# Altium footprint library LPEDT_revA1_bikeit.PcbLib: 45 footprints (part 3 of 3)
Each footprint in its own frame and in the unit in brackets; x right, y up, seen from the top. Pads: shape width x height; smd on the part's side, far side on the other; paste and mask are expansions set on the pad; w line width, h text height; cw(c..) or ccw(c..) is an arc to the next point about the centre after c.
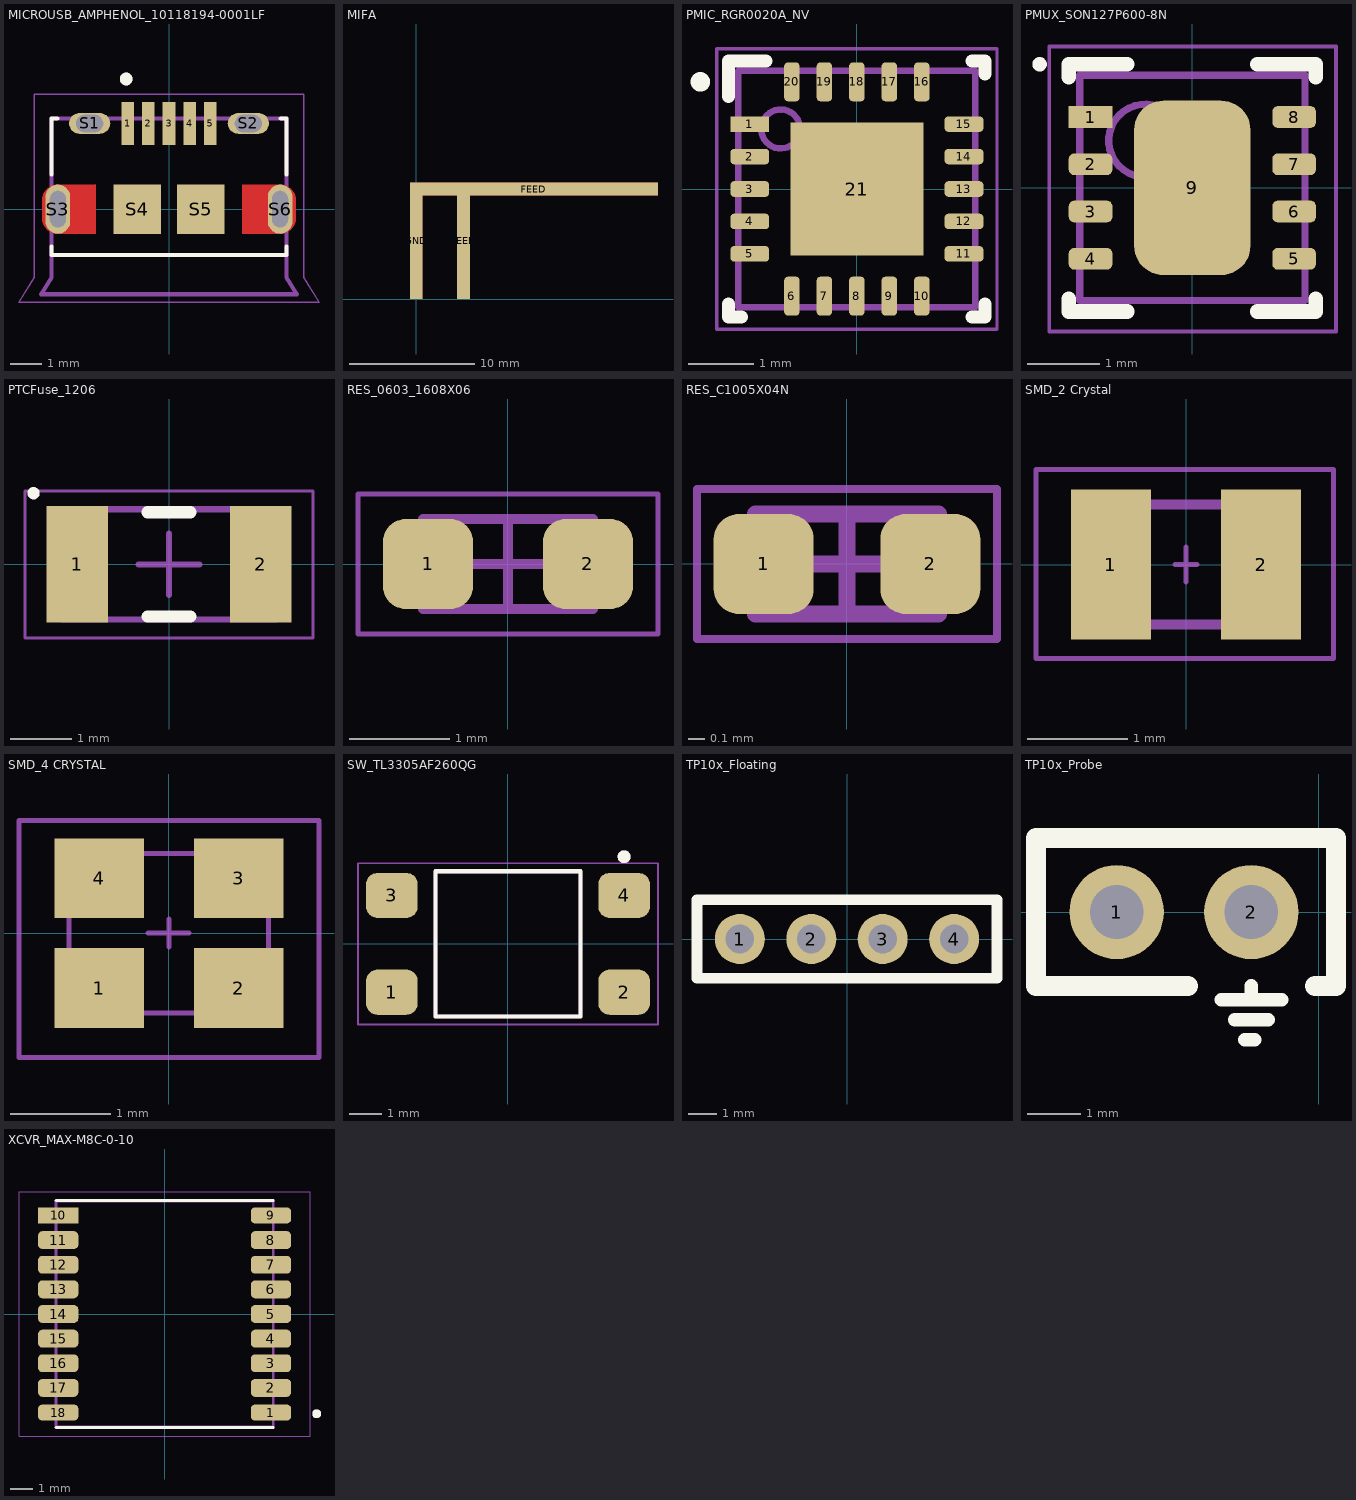
[diagram p2: the footprints below, top view; thin cyan lines are the x and y axes]

## MICROUSB_AMPHENOL_10118194-0001LF [mm]
pads (11):
  rect 0.4x1.35 smd: 1(-1.3,2.7) 2(-0.65,2.7) 3(0,2.7) 4(0.65,2.7) 5(1.3,2.7)
  oval 1.3x0.65 hole 0.55 slot 0.85 at 0 deg: S1(-2.5,2.7) S2(2.5,2.7)
  oval 0.775x1.55 hole 0.5 slot 1.15 at 90 deg: S3(-3.5,0) S6(3.5,0)
  rect 1.5x1.55 smd: S4(-1,0) S5(1,0)
Top Layer:
  region: 192 vertices and 0 holes, not listed, extent -4,-0.775 -2.3,0.78
  region: 192 vertices and 0 holes, not listed, extent 2.3,-0.78 4,0.775
Top Overlay:
  circle w0.2: c-1.35,4.1 r0.1
  lines w0.127: -3.7,-1.18 -3.7,-1.45 3.7,-1.45 3.7,-1.18 ; -3.7,1.095 -3.7,2.85 -3.52,2.85 ; 3.52,2.85 3.7,2.85 3.7,1.095
Top Paste:
  drawing of 6 lines, arcs and shapes, not listed
Top Solder:
  region: -2.2,-0.875 -3.6,-0.875 -3.626,-0.874 -3.652,-0.872 -3.678,-0.869 -3.704,-0.864 -3.729,-0.858 -3.755,-0.851 -3.779,-0.842 -3.803,-0.832 -3.827,-0.821 -3.85,-0.808 -3.872,-0.794 -3.894,-0.78 -3.915,-0.764 -3.935,-0.747 -3.954,-0.729 -3.972,-0.71 -3.989,-0.69 -4.005,-0.669 -4.019,-0.647 -4.033,-0.625 -4.046,-0.602 -4.057,-0.578 -4.067,-0.554 -4.076,-0.53 -4.083,-0.504 -4.089,-0.479 -4.094,-0.453 -4.097,-0.427 -4.099,-0.401 -4.1,-0.375 -4.1,0.375 -4.099,0.401 -4.097,0.427 -4.094,0.453 -4.089,0.479 -4.083,0.504 -4.076,0.53 -4.067,0.554 -4.057,0.578 -4.046,0.602 -4.033,0.625 -4.019,0.647 -4.005,0.669 -3.989,0.69 -3.972,0.71 -3.954,0.729 -3.935,0.747 -3.915,0.764 -3.894,0.78 -3.872,0.794 -3.85,0.808 -3.827,0.821 -3.803,0.832 -3.779,0.842 -3.755,0.851 -3.729,0.858 -3.704,0.864 -3.678,0.869 -3.652,0.872 -3.626,0.874 -3.6,0.875 -2.2,0.875
  region: 3.626,0.874 3.652,0.872 3.678,0.869 3.704,0.864 3.729,0.858 3.755,0.851 3.779,0.842 3.803,0.832 3.827,0.821 3.85,0.808 3.872,0.794 3.894,0.78 3.915,0.764 3.935,0.747 3.954,0.729 3.972,0.71 3.989,0.69 4.005,0.669 4.019,0.647 4.033,0.625 4.046,0.602 4.057,0.578 4.067,0.554 4.076,0.53 4.083,0.504 4.089,0.479 4.094,0.453 4.097,0.427 4.099,0.401 4.1,0.375 4.1,-0.375 4.099,-0.401 4.097,-0.427 4.094,-0.453 4.089,-0.479 4.083,-0.504 4.076,-0.53 4.067,-0.554 4.057,-0.578 4.046,-0.602 4.033,-0.625 4.019,-0.647 4.005,-0.669 3.989,-0.69 3.972,-0.71 3.954,-0.729 3.935,-0.747 3.915,-0.764 3.894,-0.78 3.872,-0.794 3.85,-0.808 3.827,-0.821 3.803,-0.832 3.779,-0.842 3.755,-0.851 3.729,-0.858 3.704,-0.864 3.678,-0.869 3.652,-0.872 3.626,-0.874 3.6,-0.875 2.2,-0.875 2.2,0.875 3.6,0.875
Mechanical 13:
  circle w0.2: c-1.35,4.1 r0.1
  lines w0.127: -3.7,-1.45 3.7,-1.45 ; -3.7,-1.45 -3.7,2.85 3.7,2.85 3.7,-1.45 ; -3.7,-1.45 -3.7,-2.15 -4.025,-2.68 4.025,-2.68 3.7,-2.15 3.7,-1.45
  text "PCB END" at -1.95,-2.1 h0.5
  text ".Designator" at -3.187,1.219 h0.5
Mechanical 15:
  lines w0.05: -4.725,-2.93 4.725,-2.93 4.25,-2.15 4.25,3.625 -4.25,3.625 -4.25,-2.15 -4.725,-2.93
3D body "10118194c.stp": height 2.75, standoff -0.53, extent -4.05,-2.692 4,2.888

## MIFA [mil] "Footprint for Miniaturized Inverted F Antenna"
pads (3):
  rect 40x367 smd paste-118.11 mask+0: FEED(149,183.5) GND(0,183.5)
  rect 782.01x40 smd paste-118.11 mask+0: FEED(370.98,347.01)
Top Layer:
  region: -20,367.01 -20,0 20,0 20,367.01
  region: 129.02,367.01 129.02,0 169.02,0 169.02,367.01
  rectangle: -20,327 762,367

## PMIC_RGR0020A_NV [mm]
pads (41):
  rect 0.6x0.24 smd paste-0.102 mask+0.051: 1(-1.65,1)
  rrect50% 0.6x0.24 smd paste-0.102 mask+0.051: 2(-1.65,0.5) 3(-1.65,0) 4(-1.65,-0.5) 5(-1.65,-1) 11(1.65,-1) 12(1.65,-0.5) 13(1.65,0) 14(1.65,0.5) 15(1.65,1)
  rrect50% 0.24x0.6 smd paste-0.102 mask+0.051: 6(-1,-1.65) 7(-0.5,-1.65) 8(0,-1.65) 9(0.5,-1.65) 10(1,-1.65) 16(1,1.65) 17(0.5,1.65) 18(0,1.65) 19(-0.5,1.65) 20(-1,1.65)
  rect 2.05x2.05 smd paste-1.025 mask+0.051: 21(0,0)
  rrect50% 0.6x0.24 on Top Paste paste-0.102 mask+0.051: ""(-1.65,-1.001) ""(-1.65,-0.501) ""(-1.65,-0.001) ""(-1.65,0.499) ""(1.65,-1.001) ""(1.65,-0.501) ""(1.65,-0.001) ""(1.65,0.499) ""(1.65,0.999)
  rect 0.6x0.24 on Top Paste paste-0.102 mask+0.051: ""(-1.65,0.999)
  rrect50% 0.24x0.6 on Top Paste paste-0.102 mask+0.051: ""(-1,-1.651) ""(-1,1.649) ""(-0.5,-1.651) ""(-0.5,1.649) ""(0,-1.651) ""(0,1.649) ""(0.5,-1.651) ""(0.5,1.649) ""(1,-1.651) ""(1,1.649)
Top Overlay:
  circle w0.2: c-2.413,1.651 r0.05
  lines w0.2: -1.975,-1.775 -1.975,-1.975 -1.775,-1.975 ; -1.975,1.425 -1.975,1.975 -1.4,1.975 ; 1.775,-1.975 1.975,-1.975 1.975,-1.775 ; 1.775,1.975 1.975,1.975 1.975,1.775
Top Paste:
  region: 0.1,1.017 0.1,0.1 1.017,0.1 1.017,1.017
  region: -0.1,0.1 -0.1,1.017 -1.017,1.017 -1.017,0.1
  region: -0.1,-1.017 -0.1,-0.1 -1.017,-0.1 -1.017,-1.017
  region: 0.1,-0.1 0.1,-1.017 1.017,-1.017 1.017,-0.1
Mechanical 13:
  circle w0.1: c-1.175,0.925 r0.3
  lines w0.1: -1.825,-1.825 -1.825,1.825 1.825,1.825 1.825,-1.825 -1.825,-1.825
  text ".Designator" at -1.524,-1.397 h0.5
Mechanical 15:
  lines w0.05: -2.159,-2.159 2.159,-2.159 2.159,2.159 -2.159,2.159 -2.159,-2.159
3D body "RGR0020A.stp": height 1, standoff 0, extent -1.75,-1.75 1.75,1.75

## PMUX_SON127P600-8N [mm]
height 1
pads (9):
  rect 0.6x0.3 smd: 1(-1.4,0.975)
  rrect50% 0.6x0.3 smd: 2(-1.4,0.325) 3(-1.4,-0.325) 4(-1.4,-0.975) 5(1.4,-0.975) 6(1.4,-0.325) 7(1.4,0.325) 8(1.4,0.975)
  rrect50% 1.6x2.4 smd: 9(0,0)
Top Overlay:
  circle w0.1: c-2.1,1.7 r0.05
  lines w0.2: -1.7,-1.525 -1.7,-1.7 -0.895,-1.7 ; -1.7,1.525 -1.7,1.7 -0.895,1.7 ; 0.895,-1.7 1.7,-1.7 1.7,-1.525 ; 0.895,1.7 1.7,1.7 1.7,1.525
Mechanical 13:
  circle w0.1: c-0.65,0.65 r0.5
  lines w0.1: -1.55,-1.55 1.55,-1.55 1.55,1.55 -1.55,1.55 -1.55,-1.55
  text ".Designator" at -1.396,-1.207 h0.5
Mechanical 15:
  lines w0.05: -1.969,-1.976 1.976,-1.976 1.976,1.946 -1.969,1.946 -1.969,-1.976
  lines w0.1: -0.5,0 0.5,0 ; 0,-0.5 0,0.5
3D body "SON127P600-8N.step": height 1, standoff 0, extent -1.6,-1.55 1.6,1.55

## PTCFuse_1206 [mm]
height 0.85
pads (2):
  rect 1x1.9 smd: 1(-1.5,0) 2(1.5,0)
Top Overlay:
  circle w0.1: c-2.212,1.162 r0.05
  lines w0.2: -0.35,-0.85 0.35,-0.85 ; -0.35,0.85 0.35,0.85
Mechanical 13:
  lines w0.1: -1.75,-0.9 1.75,-0.9 1.75,0.9 -1.75,0.9 -1.75,-0.9
  text ".Designator" at -0.799,-0.677 h0.5
Mechanical 15:
  lines w0.05: -2.35,-1.2 2.35,-1.2 2.35,1.2 -2.35,1.2 -2.35,-1.2
  lines w0.1: -0.5,0 0.5,0 ; 0,-0.5 0,0.5
3D body "PTCFuse_1206.step": height 0.85, standoff 0, extent -1.75,-0.9 1.75,0.9

## RES_0603_1608X06 [mm] "Chip Resistor, 2-Leads, Body 1.60x0.80mm, IPC Medium Density"
height 0.55
pads (2):
  rrect50% 0.9x0.9 smd: 1(-0.8,0) 2(0.8,0)
Mechanical 13:
  lines w0.1: -0.85,-0.45 -0.85,0.45 0.85,0.45 0.85,-0.45 -0.85,-0.45
  text ".Designator" at -0.635,-0.254 h0.4
Mechanical 15:
  lines w0.05: -1.5,-0.7 -1.5,0.7 1.5,0.7 1.5,-0.7 -1.5,-0.7
  lines w0.1: -0.45,0 0.45,0 ; 0,-0.45 0,0.45
3D body "0603_1608X05N.step": height 0.45, standoff 0, extent -0.775,-0.425 0.775,0.425

## RES_C1005X04N [mm] "Chip Resistor, 2-Leads, Body 1.00x0.50mm, IPC Medium Density"
height 0.4
pads (2):
  rrect50% 0.6x0.6 smd: 1(-0.5,0) 2(0.5,0)
Mechanical 13:
  lines w0.1: -0.55,-0.3 -0.55,0.3 0.55,0.3 0.55,-0.3 -0.55,-0.3
  text ".Designator" at -0.762,-0.305 h0.4
Mechanical 15:
  lines w0.05: -0.9,-0.45 -0.9,0.45 0.9,0.45 0.9,-0.45 -0.9,-0.45
  lines w0.1: -0.3,0 0.3,0 ; 0,-0.3 0,0.3
3D body "RESC1005X04N.step": height 0.4, standoff 0, extent -0.55,-0.3 0.55,0.3

## SMD_2 Crystal [mm]
pads (2):
  rect 0.8x1.5 smd: 1(-0.751,0) 2(0.751,0)
Mechanical 3:
  lines w0.05: 0,-0.175 0,0.175 ; 0,0 -0.112,0 0.112,0 ; -1.5,-0.939 -1.5,0.95 1.475,0.95 1.475,-0.939 -1.5,-0.939
Mechanical 13:
  lines w0.1: -1,-0.6 1,-0.6 1,0.6 -1,0.6 -1,-0.6
  text ".Designator" at -0.788,-0.483 h0.2
3D body "CM8V-T1A.stp": height 0.6, standoff 0, extent -1,-0.6 1,0.6

## SMD_4 CRYSTAL [mm]
pads (4):
  rect 0.9x0.8 smd: 1(-0.7,-0.55) 2(0.7,-0.55) 3(0.7,0.55) 4(-0.7,0.55)
Mechanical 3:
  lines w0.05: -0.21,0 0.203,0 0,0 ; 0,-0.141 0,0.14 ; 1.504,-1.244 -1.504,-1.244 -1.504,1.128 1.505,1.128 1.505,-1.244
Mechanical 13:
  lines w0.05: -1,-0.8 -1,0.8 1,0.8 1,-0.8 -1,-0.8
  text ".Designator" at -0.95,-0.684 h0.2
3D body "Crys_Kyocera_CX2016DB48000C0WPLA2_eec.STEP": height 0.45, standoff 0, extent -1,-0.8 1,0.8

## SW_TL3305AF260QG [mm]
pads (4):
  rrect50% 1.6x1.4 smd: 1(-3.6,-1.5) 2(3.6,-1.5) 3(-3.6,1.5) 4(3.6,1.5)
Top Overlay:
  circle w0.2: c3.6,2.7 r0.1
  lines w0.127: -2.25,-2.25 -2.25,2.25 2.25,2.25 2.25,-2.25 -2.25,-2.25
Mechanical 13:
  circle w0.2: c3.6,2.7 r0.1
  lines w0.127: -2.25,-2.25 -2.25,2.25 2.25,2.25 2.25,-2.25 -2.25,-2.25
  text ".Designator" at -1.955,-1.712 h0.4
Mechanical 15:
  lines w0.05: -4.65,-2.5 -4.65,2.5 4.65,2.5 4.65,-2.5 -4.65,-2.5
3D body "TL3305AFxxxxG.stp": height 3.7, standoff -0.1, extent -3.75,-2.25 3.75,2.25

## TP10x_Floating [mil] "Small Probs footprint"
pads (4):
  round 70 hole 40: 1(-150,0) 2(-50,0) 3(50,0) 4(150,0)
Top Overlay:
  lines w15: -210,-55 -210,55 210,55 210,-55 195,-55 -210,-55

## TP10x_Probe [mil] "Small Probs footprint"
pads (2):
  round 70 hole 40: 1(-150,0) 2(-50,0)
Top Overlay:
  lines w10: -72.5,-65 -27.5,-65 ; -62.5,-80 -37.5,-80 ; -54.77,-95 -47.5,-95 ; -50,-65 -50,-54.73
  lines w15: -97.08,-55 -210,-55 -210,55 12.93,55 12.93,-54.94 -2.64,-54.94

## XCVR_MAX-M8C-0-10 [mm]
pads (36):
  rrect50% 1.8x0.7 smd paste-2 mask+0: 1(4.75,-4.4) 9(4.75,4.4) 18(-4.75,-4.4)
  rrect50% 1.8x0.8 smd paste-2 mask+0: 2(4.75,-3.3) 3(4.75,-2.2) 4(4.75,-1.1) 5(4.75,0) 6(4.75,1.1) 7(4.75,2.2) 8(4.75,3.3) 11(-4.75,3.3) 12(-4.75,2.2) 13(-4.75,1.1) 14(-4.75,0) 15(-4.75,-1.1) 16(-4.75,-2.2) 17(-4.75,-3.3)
  rect 1.8x0.7 smd paste-2 mask+0: 10(-4.75,4.4)
  rrect50% 1.8x0.7 on Top Paste paste-2 mask+0: ""(-4.749,-4.399) ""(4.751,-4.399) ""(4.751,4.401)
  rrect50% 1.8x0.8 on Top Paste paste-2 mask+0: ""(-4.749,-3.299) ""(-4.749,-2.199) ""(-4.749,-1.099) ""(-4.749,0.001) ""(-4.749,1.101) ""(-4.749,2.201) ""(-4.749,3.301) ""(4.751,-3.299) ""(4.751,-2.199) ""(4.751,-1.099) ""(4.751,0.001) ""(4.751,1.101) ""(4.751,2.201) ""(4.751,3.301)
  rect 1.8x0.7 on Top Paste paste-2 mask+0: ""(-4.749,4.401)
Top Overlay:
  circle w0.2: c6.795,-4.454 r0.1
  lines w0.127: -4.85,-5.063 4.85,-5.063 ; -4.85,5.064 4.85,5.064
Top Solder:
  region: -5.65,-4.05 -3.85,-4.05 -3.85,-4.75 -5.65,-4.75
  region: -5.65,-2.9 -3.85,-2.9 -3.85,-3.7 -5.65,-3.7
  region: -5.65,-1.8 -3.85,-1.8 -3.85,-2.6 -5.65,-2.6
  region: -5.65,-0.7 -3.85,-0.7 -3.85,-1.5 -5.65,-1.5
  region: -5.65,0.4 -3.85,0.4 -3.85,-0.4 -5.65,-0.4
  region: -5.65,1.5 -3.85,1.5 -3.85,0.7 -5.65,0.7
  region: -5.65,2.6 -3.85,2.6 -3.85,1.8 -5.65,1.8
  region: -5.65,3.7 -3.85,3.7 -3.85,2.9 -5.65,2.9
  region: -5.65,4.75 -3.85,4.75 -3.85,4.05 -5.65,4.05
  region: 3.85,4.75 5.65,4.75 5.65,4.05 3.85,4.05
  region: 3.85,3.7 5.65,3.7 5.65,2.9 3.85,2.9
  region: 3.85,2.6 5.65,2.6 5.65,1.8 3.85,1.8
  region: 3.85,1.5 5.65,1.5 5.65,0.7 3.85,0.7
  region: 3.85,0.4 5.65,0.4 5.65,-0.4 3.85,-0.4
  region: 3.85,-0.7 5.65,-0.7 5.65,-1.5 3.85,-1.5
  region: 3.85,-1.8 5.65,-1.8 5.65,-2.6 3.85,-2.6
  region: 3.85,-2.9 5.65,-2.9 5.65,-3.7 3.85,-3.7
  region: 3.85,-4.05 5.65,-4.05 5.65,-4.75 3.85,-4.75
  lines w0.254: -5.65,-4.75 -3.85,-4.75 -3.85,-4.05 -5.65,-4.05 -5.65,-4.75 ; -5.65,-3.65 -3.85,-3.65 -3.85,-2.95 -5.65,-2.95 -5.65,-3.65 ; -5.65,-2.55 -3.85,-2.55 -3.85,-1.85 -5.65,-1.85 -5.65,-2.55 ; -5.65,-1.45 -3.85,-1.45 -3.85,-0.75 -5.65,-0.75 -5.65,-1.45 ; -5.65,-0.35 -3.85,-0.35 -3.85,0.35 -5.65,0.35 -5.65,-0.35 ; -5.65,0.75 -3.85,0.75 -3.85,1.45 -5.65,1.45 -5.65,0.75 ; -5.65,1.85 -3.85,1.85 -3.85,2.55 -5.65,2.55 -5.65,1.85 ; -5.65,2.95 -3.85,2.95 -3.85,3.65 -5.65,3.65 -5.65,2.95 ; -5.65,4.05 -3.85,4.05 -3.85,4.75 -5.65,4.75 -5.65,4.05 ; 3.85,-4.75 5.65,-4.75 5.65,-4.05 3.85,-4.05 3.85,-4.75 ; 3.85,-3.65 5.65,-3.65 5.65,-2.95 3.85,-2.95 3.85,-3.65 ; 3.85,-2.55 5.65,-2.55 5.65,-1.85 3.85,-1.85 3.85,-2.55 ; 3.85,-1.45 5.65,-1.45 5.65,-0.75 3.85,-0.75 3.85,-1.45 ; 3.85,-0.35 5.65,-0.35 5.65,0.35 3.85,0.35 3.85,-0.35 ; 3.85,0.75 5.65,0.75 5.65,1.45 3.85,1.45 3.85,0.75 ; 3.85,1.85 5.65,1.85 5.65,2.55 3.85,2.55 3.85,1.85 ; 3.85,2.95 5.65,2.95 5.65,3.65 3.85,3.65 3.85,2.95 ; 3.85,4.05 5.65,4.05 5.65,4.75 3.85,4.75 3.85,4.05
Mechanical 13:
  circle w0.2: c6.795,-4.454 r0.1
  lines w0.127: -4.85,-5.05 -4.85,5.05 4.85,5.05 4.85,-5.05 -4.85,-5.05
  text ".Designator" at -4.318,-4.699 h1.3
Mechanical 15:
  lines w0.05: -6.5,-5.461 -3.089,-5.461 3.089,-5.461 6.5,-5.461 6.5,5.461 -6.5,5.461 -6.5,-5.461
3D body "step_temp.STEP": height 2.7, standoff 0, extent -4.85,-5.05 4.85,5.05